# Altium footprint library 研发中心PCB库文件.PcbLib: 333 footprints (part 20 of 21)
Each footprint in its own frame and in the unit in brackets; x right, y up, seen from the top. Pads: shape width x height; smd on the part's side, far side on the other; paste and mask are expansions set on the pad; w line width, h text height; cw(c..) or ccw(c..) is an arc to the next point about the centre after c.
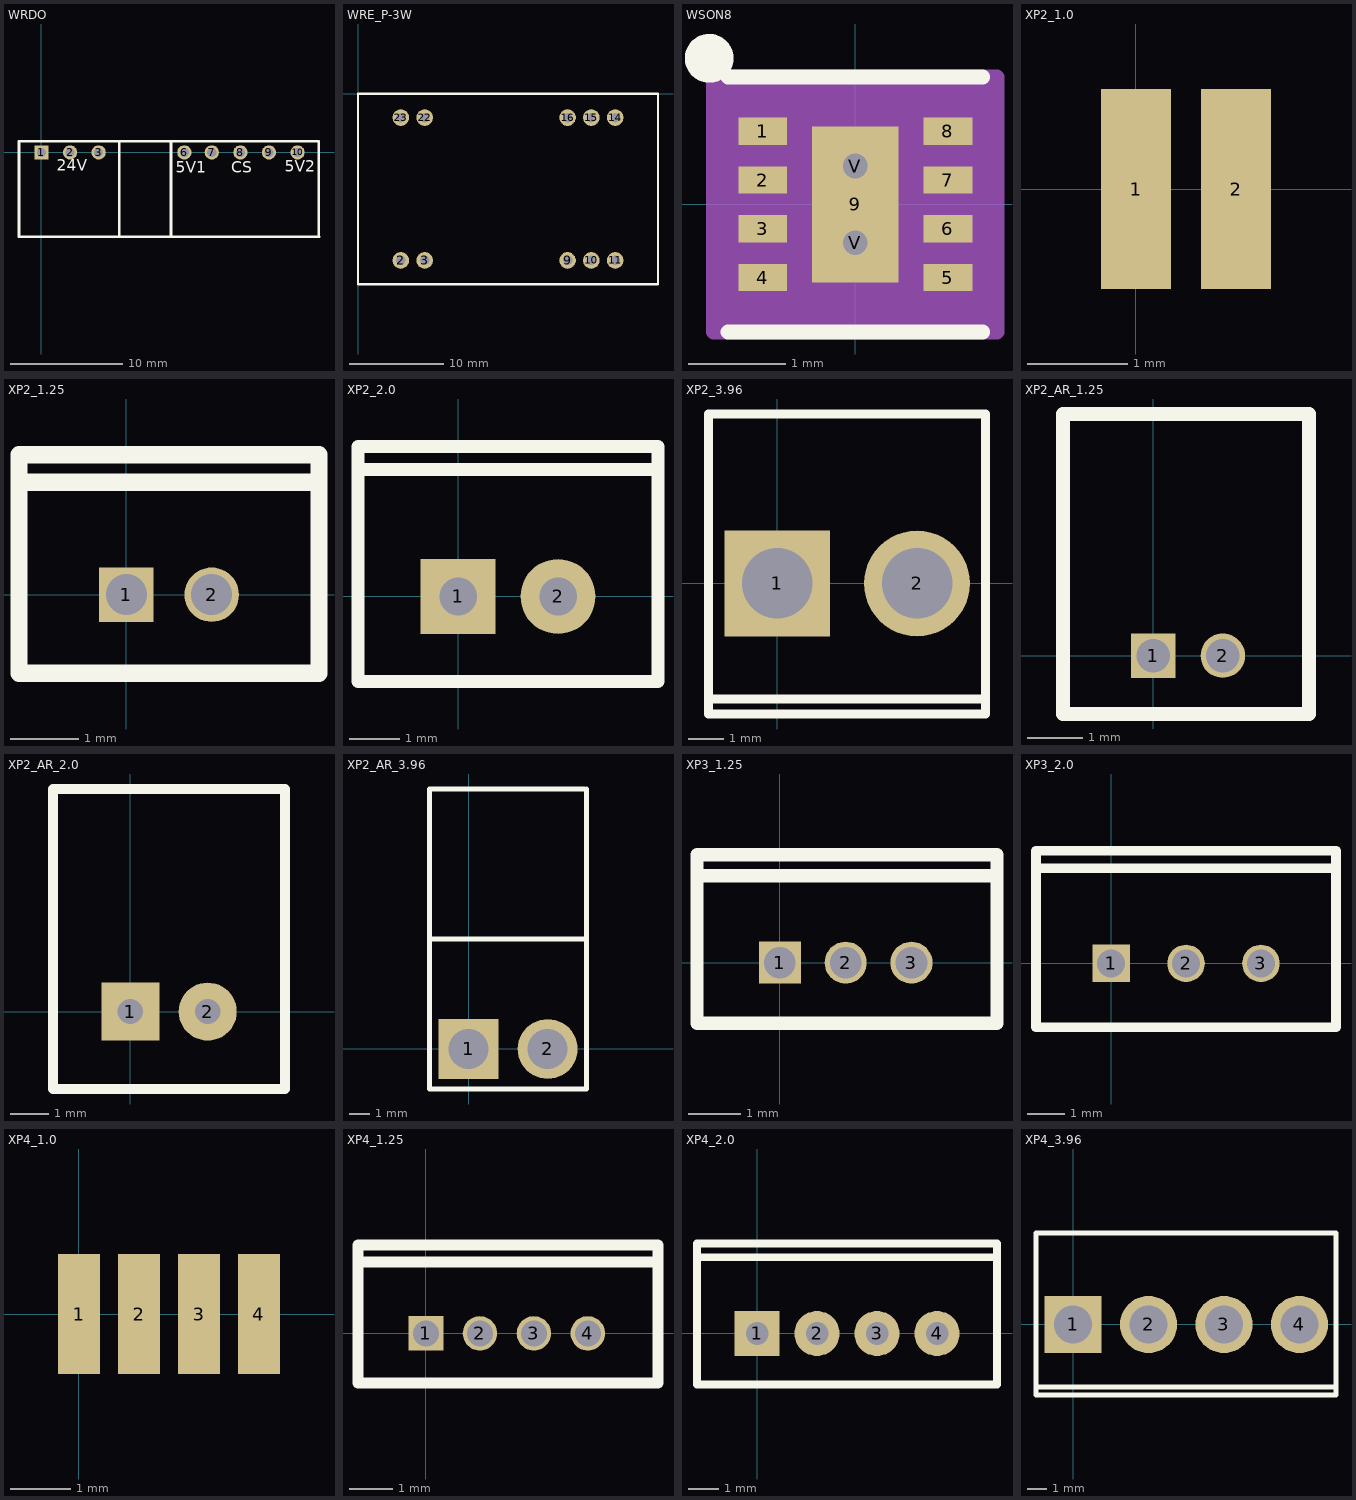
[diagram p19: the footprints below, top view; thin cyan lines are the x and y axes]

## WRDO [mil]
pads (8):
  rect 50x50 hole 32: 1(0,0)
  round 50 hole 32: 2(100,0) 3(200,0) 6(500,0) 7(596.06,0) 8(696.06,0) 9(796.02,0.01) 10(896.06,0)
Top Overlay:
  lines w10: -78.74,-295.28 -78.74,39.37 969.84,39.37 ; -77.39,-295.28 971.19,-295.28 ; 272.21,-295.28 272.21,39.37 ; 452.61,-294.89 452.99,39.37 ; 970.1,-295.28 970.1,39.37
  text "5V1" at 469.55,-70.61 h39.37
  text "24V" at 53.7,-63.83 h39.37
  text "5V2" at 851.5,-68.35 h39.37
  text "CS" at 663.91,-70.61 h39.37

## WRE_P-3W [mil]
pads (10):
  round 70 hole 40: 2(180,-700) 3(280,-700) 9(880,-700) 10(980,-700) 11(1080,-700) 14(1080,-100) 15(980,-100) 16(880,-100) 22(280,-100) 23(180,-100)
Top Overlay:
  lines w10: 0,-800 1260,-800 1260,-600 1260,0 0,0 0,-500 0,-600 0,-800

## WSON8 [mm]
pads (11):
  rect 0.5x0.28 smd paste-0.14: 1(-0.95,0.75) 2(-0.95,0.25) 3(-0.95,-0.25) 4(-0.95,-0.75) 5(0.95,-0.75) 6(0.95,-0.25) 7(0.95,0.25) 8(0.95,0.75)
  rect 0.889x1.6 smd paste-0.787 mask-0.787: 9(0,0)
  round 0.508 / inner round 1.524 / far side round 0.508 hole 0.254: V(0,-0.394) V(0,0.394)
Top Layer:
  region: 0,-0.8
  region: 0,0.8
Top Overlay:
  circle w0.25: c-1.5,1.5 r0.125
  lines w0.152: -1.308,-1.308 1.308,-1.308 ; -1.308,1.308 1.308,1.308
Top Paste:
  region: 0.37,-0.494 0.241,-0.494 0.1,-0.635 0.1,-0.725 0.37,-0.725
  region: 0.37,0.294 0.241,0.294 0.1,0.152 0.1,-0.152 0.241,-0.294 0.37,-0.294
  region: 0.37,0.725 0.1,0.725 0.1,0.635 0.241,0.494 0.37,0.494
  region: -0.241,-0.494 -0.37,-0.494 -0.37,-0.725 -0.1,-0.725 -0.1,-0.635
  region: -0.241,0.294 -0.37,0.294 -0.37,-0.294 -0.241,-0.294 -0.1,-0.152 -0.1,0.152
  region: -0.1,0.725 -0.37,0.725 -0.37,0.494 -0.241,0.494 -0.1,0.635
  region: 1.175,0.865 0.725,0.865 0.725,0.635 1.175,0.635
  region: 1.175,0.365 0.725,0.365 0.725,0.135 1.175,0.135
  region: 1.175,-0.135 0.725,-0.135 0.725,-0.365 1.175,-0.365
  region: 1.175,-0.635 0.725,-0.635 0.725,-0.865 1.175,-0.865
  region: -0.725,-0.635 -1.175,-0.635 -1.175,-0.865 -0.725,-0.865
  region: -0.725,-0.135 -1.175,-0.135 -1.175,-0.365 -0.725,-0.365
  region: -0.725,0.365 -1.175,0.365 -1.175,0.135 -0.725,0.135
  region: -0.725,0.865 -1.175,0.865 -1.175,0.635 -0.725,0.635
Top Solder:
  region: 0,-0.8
  region: 0,0.8
  region: 0.2,-0.864 0.2,0.864 0.508,0.864 0.508,-0.864
  region: -0.508,-0.864 -0.508,0.864 -0.2,0.864 -0.2,-0.864
  region: -0.508,-0.864 -0.508,-0.594 0.508,-0.594 0.508,-0.864
  region: -0.508,-0.194 -0.508,0.194 0.508,0.194 0.508,-0.194
  region: -0.508,0.594 -0.508,0.864 0.508,0.864 0.508,0.594
  region: 1.27,0.96 0.63,0.96 0.63,0.54 1.27,0.54
  region: 1.27,0.46 0.63,0.46 0.63,0.04 1.27,0.04
  region: 1.27,-0.04 0.63,-0.04 0.63,-0.46 1.27,-0.46
  region: 1.27,-0.54 0.63,-0.54 0.63,-0.96 1.27,-0.96
  region: -0.63,-0.54 -1.27,-0.54 -1.27,-0.96 -0.63,-0.96
  region: -0.63,-0.04 -1.27,-0.04 -1.27,-0.46 -0.63,-0.46
  region: -0.63,0.46 -1.27,0.46 -1.27,0.04 -0.63,0.04
  region: -0.63,0.96 -1.27,0.96 -1.27,0.54 -0.63,0.54
Mechanical 13:
  lines w0: -0.305,1.054 ccw(c0,1.054) 0.305,1.054
Mechanical 15:
  region: 1.454,-1.308 -1.454,-1.308 -1.454,1.308 1.454,1.308
  lines w0.152: -1.454,-1.308 1.454,-1.308 1.454,1.308 -1.454,1.308 -1.454,-1.308
3D body: height 0.54, standoff 0, extent -1.105,-1.054 1.105,1.054

## XP2_1.0 [mm]
pads (2):
  rect 0.7x2 smd: 1(0,0) 2(1,0)

## XP2_1.25 [mm]
pads (2):
  rect 0.8x0.8 hole 0.6: 1(0,0)
  round 0.8 hole 0.6: 2(1.25,0)
Top Overlay:
  lines w0.254: -1.575,1.651 2.774,1.651 ; -1.575,-1.15 -1.575,2.05 2.825,2.05 2.825,-1.15 -1.575,-1.15

## XP2_2.0 [mm]
pads (2):
  rect 1.5x1.5 hole 0.75: 1(0,0)
  round 1.5 hole 0.75: 2(2,0)
Top Overlay:
  lines w0.254: -2,2.54 3.924,2.54 ; -2,-1.7 4,-1.7 4,3 -2,3 -2,-1.7

## XP2_3.96 [mm]
pads (2):
  rect 3x3 hole 2: 1(0,0)
  round 3 hole 2: 2(3.96,0)
Top Overlay:
  lines w0.254: -1.95,-3.277 5.9,-3.277 ; -1.95,-3.7 -1.95,4.8 5.9,4.8 5.9,-3.7 -1.95,-3.7

## XP2_AR_1.25 [mm]
pads (2):
  rect 0.8x0.8 hole 0.6: 1(0,0)
  round 0.8 hole 0.6: 2(1.25,0)
Top Overlay:
  lines w0.254: -1.625,-1.05 2.8,-1.05 2.8,4.35 -1.625,4.35 -1.625,-1.05

## XP2_AR_2.0 [mm]
pads (2):
  rect 1.5x1.5 hole 0.65: 1(0,0)
  round 1.5 hole 0.65: 2(2,0)
Top Overlay:
  lines w0.254: -2,-2 -2,5.75 4,5.75 4,-2 -2,-2

## XP2_AR_3.96 [mm]
pads (2):
  rect 3x3 hole 2: 1(0,0)
  round 3 hole 2: 2(3.96,0)
Top Overlay:
  lines w0.254: -1.95,5.5 5.9,5.5 ; 5.778,13 -1.95,13 -1.95,-2 5.9,-2 5.9,13

## XP3_1.25 [mm]
pads (3):
  rect 0.8x0.8 hole 0.6: 1(0,0)
  round 0.8 hole 0.6: 2(1.25,0) 3(2.5,0)
Top Overlay:
  lines w0.254: -1.575,1.651 4.125,1.651 ; -1.575,-1.15 4.125,-1.15 4.125,2.05 -1.575,2.05 -1.575,-1.15

## XP3_2.0 [mm]
pads (3):
  rect 1x1 hole 0.75: 1(0,0)
  round 1 hole 0.75: 2(2,0) 3(4,0)
Top Overlay:
  lines w0.254: -2,2.54 6,2.54 ; -2,-1.7 -2,3 6,3 6,-1.7 -2,-1.7

## XP4_1.0 [mm]
pads (4):
  rect 0.7x2 smd: 1(0,0) 2(1,0) 3(2,0) 4(3,0)

## XP4_1.25 [mm]
pads (4):
  rect 0.8x0.8 hole 0.6: 1(0,0)
  round 0.8 hole 0.6: 2(1.25,0) 3(2.5,0) 4(3.75,0)
Top Overlay:
  lines w0.254: -1.575,1.651 5.375,1.651 ; -1.575,-1.15 5.375,-1.15 5.375,2.05 -1.575,2.05 -1.575,-1.15

## XP4_2.0 [mm]
pads (4):
  rect 1.5x1.5 hole 0.75: 1(0,0)
  round 1.5 hole 0.75: 2(2,0) 3(4,0) 4(6,0)
Top Overlay:
  lines w0.254: -2,2.54 8,2.54 ; -2,-1.7 -2,3 8,3 8,-1.7 -2,-1.7

## XP4_3.96 [mm]
pads (4):
  rect 3x3 hole 2: 1(0,0)
  round 3 hole 2: 2(3.96,0) 3(7.92,0) 4(11.88,0)
Top Overlay:
  lines w0.254: -1.95,-3.277 13.8,-3.277 ; -1.95,-3.7 13.8,-3.7 13.8,4.8 -1.95,4.8 -1.95,-3.7